# EAGLE library part EEPROM_CAT24C32WI-GT3 (library rpibout)
CAT24C32WI-GT3 SOIC8 http://www.onsemi.cn/PowerSolutions/document/CAT24C32-D.PDF
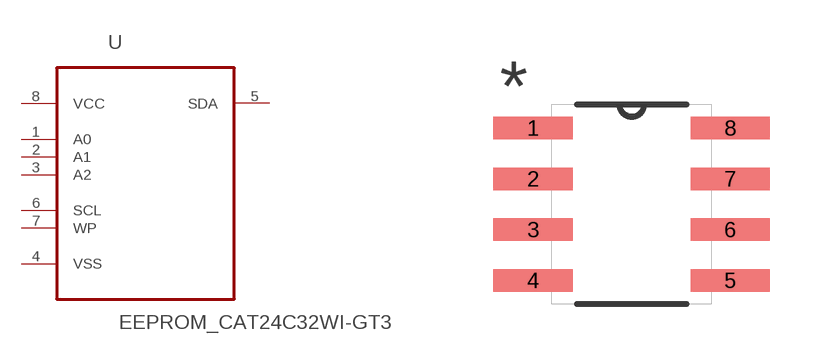
[diagram p3: symbol with the pads of SOIC-8; footprint SOIC-8]

Designator prefix -

## EEPROM_CAT24C32WI-GT3  [SOIC-8]
1  A0  in
2  A1  in
3  A2  in
4  VSS  pas
5  SDA
6  SCL  in
7  WP  in
8  VCC  pwr

## Footprint SOIC-8 (pad centres in mm)
SOIC-8
smd 1.981 x 0.559: 1 -2.464,1.905; 2 -2.464,0.635; 3 -2.464,-0.635; 4 -2.464,-1.905; 5 2.464,-1.905; 6 2.464,-0.635; 7 2.464,0.635; 8 2.464,1.905